# Altium footprint library RF.PcbLib: 10 footprints
Each footprint in its own frame and in the unit in brackets; x right, y up, seen from the top. Pads: shape width x height; smd on the part's side, far side on the other; paste and mask are expansions set on the pad; w line width, h text height; cw(c..) or ccw(c..) is an arc to the next point about the centre after c.
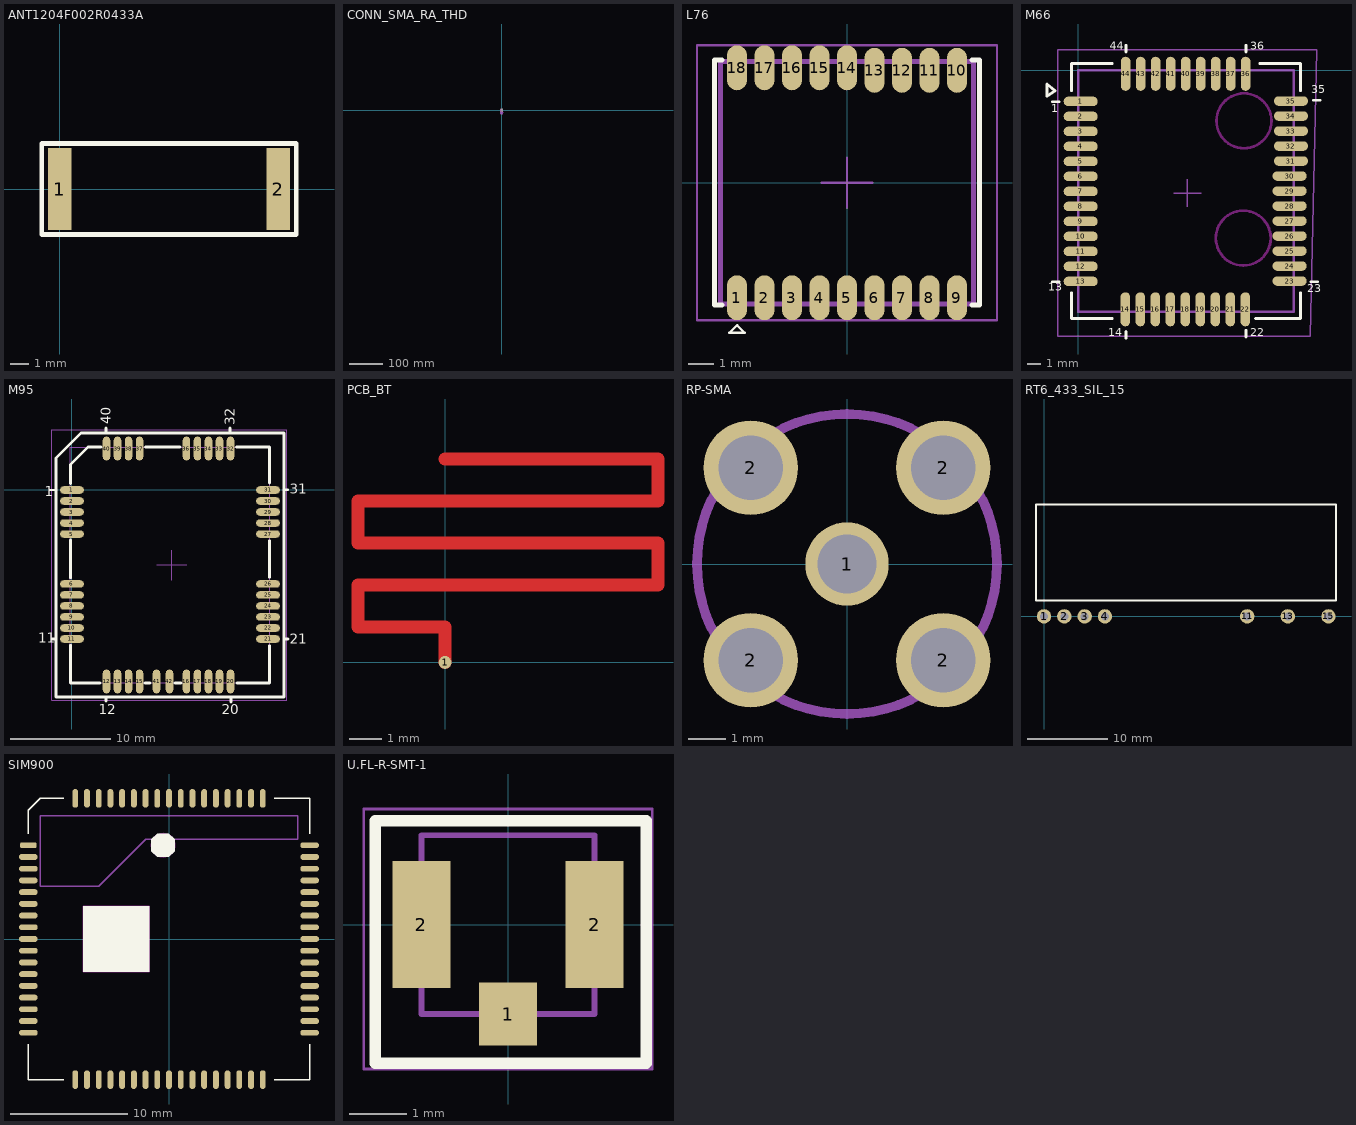
[diagram p0: the footprints below, top view; thin cyan lines are the x and y axes]

## ANT1204F002R0433A [mm]
pads (2):
  rect 1.3x4.5 smd: 1(0,0) 2(12,0)
Top Overlay:
  lines w0.254: -1,-2.5 13,-2.5 13,2.5 -1,2.5 -1,-2.5

## CONN_SMA_RA_THD [mm]
height 10.43
pads (5):
  round 2.5 hole 1.5: 1(0,0)
  round 2.5 hole 1.6: 2(-2.54,-2.54) 2(-2.54,2.54) 2(2.54,-2.54) 2(2.54,2.54)
Mechanical 13:
  drawing of 402 lines, arcs and shapes, not listed
3D body "SMA Conn TE 5-1814400-1.STEP": height 10.43, standoff -3.41, extent -3.173,-11.05 3.167,3.15

## L76 [mm]
pads (18):
  oval 0.8x1.8 smd mask+0.15: 1(-4.4,-4.6) 2(-3.3,-4.6) 3(-2.2,-4.6) 4(-1.1,-4.6) 5(0,-4.6) 6(1.1,-4.6) 7(2.2,-4.6) 8(3.3,-4.6) 9(4.4,-4.6) 10(4.4,4.5) 11(3.3,4.5) 12(2.2,4.5) 13(1.1,4.5) 14(0,4.6) 15(-1.1,4.6) 16(-2.2,4.6) 17(-3.3,4.6) 18(-4.4,4.6)
Top Overlay:
  lines w0.1: -4.7,-6 -4.4,-5.7 -4.1,-6 -4.7,-6
  lines w0.2: -5,-4.9 -5.3,-4.9 -5.3,4.9 -5,4.9 ; 5,-4.9 5.3,-4.9 5.3,4.9 5,4.9
Mechanical 13:
  lines w0.2: -5.05,-4.85 -5.05,4.85 ; -5.05,-4.85 5.05,-4.85 5.05,4.85 -5.05,4.85
Mechanical 15:
  lines w0.1: -1,0 1,0 ; 0,-1 0,1 ; -6,-5.5 6,-5.5 6,5.5 -6,5.5 -6,-5.5
3D body "User Library-QUECTEL L76.step": height 2.52, standoff 0, extent -5.05,-4.85 5.05,4.85

## M66 [mm]
pads (44):
  oval 2.5x0.7 smd mask+0.15: 1(0.175,-2.275) 2(0.175,-3.375) 3(0.175,-4.475) 4(0.175,-5.575) 5(0.175,-6.675) 6(0.175,-7.775) 7(0.175,-8.875) 8(0.175,-9.975) 9(0.175,-11.075) 10(0.175,-12.175) 11(0.175,-13.275) 12(0.175,-14.375) 13(0.175,-15.475) 23(15.5,-15.45) 24(15.5,-14.35) 25(15.5,-13.25) 26(15.5,-12.15) 27(15.5,-11.05) 28(15.5,-9.95) 29(15.5,-8.85) 30(15.5,-7.75) 31(15.6,-6.65) 32(15.6,-5.55) 33(15.6,-4.45) 34(15.6,-3.35) 35(15.6,-2.25)
  oval 0.7x2.5 smd mask+0.15: 14(3.45,-17.525) 15(4.55,-17.525) 16(5.65,-17.525) 17(6.75,-17.525) 18(7.85,-17.525) 19(8.95,-17.525) 20(10.05,-17.525) 21(11.15,-17.525) 22(12.25,-17.525) 36(12.275,-0.25) 37(11.175,-0.25) 38(10.075,-0.25) 39(8.975,-0.25) 40(7.875,-0.25) 41(6.775,-0.25) 42(5.675,-0.25) 43(4.575,-0.25) 44(3.475,-0.25)
Top Overlay:
  lines w0.2: -1.9,-15.5 -1.4,-15.5 ; -1.9,-2.3 -1.4,-2.3 ; -0.5,-16.3 -0.5,-18.2 2.5,-18.2 ; -0.5,-1.5 -0.5,0.5 2.5,0.5 ; 3.5,-19.65 3.5,-19.15 ; 3.5,1.35 3.5,1.85 ; 12.3,-19.55 12.3,-19.05 ; 12.3,1.35 12.3,1.85 ; 13,-18.2 16.3,-18.2 16.3,-16.3 ; 13.3,0.5 16.3,0.5 16.3,-1.5 ; 17.05,-15.5 17.55,-15.5 ; 17.25,-2.2 17.75,-2.2 ; -2.3,-1.9 -1.7,-1.5 -2.3,-1 -2.3,-1.9
  text "1" at -2,-3.3 h1
  text "13" at -2.2,-16.4 h1
  text "14" at 2.2,-19.7 h1
  text "22" at 12.6,-19.7 h1
  text "23" at 16.8,-16.5 h1
  text "35" at 17.1,-1.9 h1
  text "36" at 12.6,1.3 h1
  text "44" at 2.3,1.3 h1
Keep-Out Layer:
  circle w0.2: c12.15,-3.7 r2.012
  circle w0.2: c12.1,-12.3 r2.012
Mechanical 13:
  lines w0.2: 0,-17.7 15.8,-17.7 15.8,0 0,0 0,-17.7
Mechanical 15:
  lines w0.1: 7,-9 9,-9 ; 8,-10 8,-8 ; -1.5,-19.5 17,-19.5 17.5,1.5 -1.5,1.5 -1.5,-19.5
3D body: height 2.3, standoff 0.01, extent 0,-17.7 15.8,0

## M95 [mm]
pads (42):
  oval 2.4x0.75 smd: 1(0,0) 2(0,-1.1) 3(0,-2.2) 4(0,-3.3) 5(0,-4.4) 6(0,-9.4) 7(0,-10.5) 8(0,-11.6) 9(0,-12.7) 10(0,-13.8) 11(0,-14.9) 21(19.6,-14.9) 22(19.6,-13.8) 23(19.6,-12.7) 24(19.6,-11.6) 25(19.6,-10.5) 26(19.6,-9.4) 27(19.6,-4.4) 28(19.6,-3.3) 29(19.6,-2.2) 30(19.6,-1.1) 31(19.6,0)
  oval 0.75x2.4 smd: 12(3.45,-19.15) 13(4.55,-19.15) 14(5.65,-19.15) 15(6.75,-19.15) 16(11.45,-19.15) 17(12.55,-19.15) 18(13.65,-19.15) 19(14.75,-19.15) 20(15.85,-19.15) 32(15.85,4.15) 33(14.75,4.15) 34(13.65,4.15) 35(12.55,4.15) 36(11.45,4.15) 37(6.75,4.15) 38(5.65,4.15) 39(4.55,4.15) 40(3.45,4.15) 41(8.45,-19.15) 42(9.75,-19.15)
Top Overlay:
  lines w0.25: -2.2,0 -1.65,0
  lines w0.254: -2,-14.9 -1.65,-14.9 ; -1.6,-20.4 -1.6,3.2 0.9,5.7 6.7,5.7 ; -1.6,-20.2 -1.6,-20.7 21.2,-20.7 21.2,5.7 6.5,5.7 ; -0.15,-15.525 -0.15,-19.3 2.8,-19.3 ; -0.15,-8.775 -0.15,-5 ; -0.15,0.65 -0.15,2.55 1.6,4.3 ; 1.625,4.3 2.9,4.3 ; 3.4,-21.1 3.4,-20.7 ; 3.4,5.8 3.4,6.2 ; 7.3,-19.3 7.8,-19.3 ; 7.35,4.3 10.8,4.3 ; 10.3,-19.3 10.9,-19.3 ; 15.8,5.8 15.8,6.2 ; 15.9,-21.2 15.9,-20.75 ; 16.45,4.3 19.75,4.3 19.75,0.7 ; 16.5,-19.3 19.75,-19.3 19.75,-15.575 ; 19.75,-8.725 19.75,-5.075 ; 21.272,0.036 21.572,0.036 ; 21.35,-14.9 21.6,-14.9
  text "20" at 15,-22.4 h1
  text "40" at 3.9,6.6 h1
  text "31" at 21.8,-0.4 h1
  text "32" at 16.3,6.5 h1
  text "21" at 21.8,-15.4 h1
  text "1" at -2.7,-0.6 h1
  text "11" at -3.4,-15.3 h1
  text "12" at 2.7,-22.4 h1
Mechanical 13:
  lines w0.1: -0.15,-19.3 19.75,-19.3 19.75,4.3 -0.15,4.3 -0.15,-19.3
Mechanical 15:
  lines w0.1: 8.5,-7.5 11.5,-7.5 ; 10,-9 10,-6 ; -2,-21 21.5,-21 21.5,6 -2,6 -2,-21
3D body "User Library-Quectel M95.step": height 2.66, standoff 0, extent -0.15,-19.3 19.75,4.3

## PCB_BT [mm] "PCB Bluetooth Antenna"
pads (1):
  round 0.4 smd paste+0.1: 1(0,0)
Top Layer:
  lines w0.4: 0,0 0,1.1 -2.7,1.1 -2.7,2.4 6.6,2.4 6.6,3.7 -2.7,3.7 -2.7,5 6.6,5 6.6,6.3 0,6.3

## RP-SMA [mm]
pads (5):
  round 2.2 hole 1.57: 1(0,0)
  round 2.5 hole 1.7: 2(-2.54,-2.54) 2(-2.54,2.54) 2(2.54,-2.54) 2(2.54,2.54)
Mechanical 1:
  circle w0.254: c0,0 r3.96
3D body "SMA_132134_Corrected.STEP": height 8.74, standoff 0, extent -3.175,-3.175 3.175,3.175

## RT6_433_SIL_15 [mm]
pads (7):
  round 1.8 hole 1: 1(0,0) 2(2.54,0) 3(5.08,0) 4(7.62,0) 11(25.4,0) 13(30.48,0) 15(35.56,0)
Top Overlay:
  lines w0.254: -1,2 -1,14 36.5,14 36.5,2 -1,2
Mechanical 1:
  text ".Designator" at 20.5,12 h1.52

## SIM900 [mm] "PCB for sim900"
height 3
pads (68):
  rrect50% 1.4x0.5 smd: 1(-12,8)
  oval 1.6x0.5 smd: 2(-12,7) 3(-12,6) 4(-12,5) 5(-12,4) 6(-12,3) 7(-12,2) 8(-12,1) 9(-12,0) 10(-12,-1) 11(-12,-2) 12(-12,-3) 13(-12,-4) 14(-12,-5) 15(-12,-6) 16(-12,-7) 17(-12,-8) 35(12,-8) 36(12,-7) 37(12,-6) 38(12,-5) 39(12,-4) 40(12,-3) 41(12,-2) 42(12,-1) 43(12,0) 44(12,1) 45(12,2) 46(12,3) 47(12,4) 48(12,5) 49(12,6) 50(12,7) 51(12,8)
  oval 0.5x1.6 smd: 18(-8,-12) 19(-7,-12) 20(-6,-12) 21(-5,-12) 22(-4,-12) 23(-3,-12) 24(-2,-12) 25(-1,-12) 26(0,-12) 27(1,-12) 28(2,-12) 29(3,-12) 30(4,-12) 31(5,-12) 32(6,-12) 33(7,-12) 34(8,-12) 52(8,12) 53(7,12) 54(6,12) 55(5,12) 56(4,12) 57(3,12) 58(2,12) 59(1,12) 60(0,12) 61(-1,12) 62(-2,12) 63(-3,12) 64(-4,12) 65(-5,12) 66(-6,12) 67(-7,12) 68(-8,12)
Top Overlay:
  region: -7.3,2.8 -1.7,2.8 -1.7,-2.8 -7.3,-2.8
  region: -1.5,8.5 -1,9 0,9 0.5,8.5 0.5,7.5 0,7 -1,7 -1.5,7.5
  lines w0.127: -12,-9 -12,-12 -9,-12 ; -12,9 -12,11 -11,12 -9,12 ; 9,-12 12,-12 12,-9 ; 9,12 12,12 12,9
Keep-Out Layer:
  circle w0.127: c-0.5,8 r1.005
  lines w0.127: -7.3,-2.8 -1.7,-2.8 -1.7,2.8 -7.3,2.8 -7.3,-2.8
Mechanical 13:
  lines w0.127: -11,4.5 -6,4.5 -2,8.5 11,8.5 11,10.5 -11,10.5 -11,4.5
3D body "SIM900.step": height 3.02, standoff 0, extent -12,-12 12,12

## U.FL-R-SMT-1 [mm]
pads (3):
  rect 1x1.1 smd: 1(0,-1.55)
  rect 1x2.2 smd: 2(-1.5,0) 2(1.5,0)
Top Overlay:
  lines w0.2: -2.3,-2.4 -2.3,1.8 2.4,1.8 2.4,-2.4 -2.3,-2.4
Mechanical 13:
  lines w0.1: -1.5,-1.55 -1.5,1.55 1.5,1.55 1.5,-1.55 -1.5,-1.55
Mechanical 15:
  lines w0.05: -2.5,-2.5 -2.5,2 2.5,2 2.5,-2.5 -2.5,-2.5
3D body "User Library-U_FL-R-SMT-1.step": height 1.25, standoff -0.01, extent -1.5,-1.55 1.5,1.55